# Altium footprint library TFBS4711_VERT.PcbLib: 1 footprints
Each footprint in its own frame and in the unit in brackets; x right, y up, seen from the top. Pads: shape width x height; smd on the part's side, far side on the other; paste and mask are expansions set on the pad; w line width, h text height; cw(c..) or ccw(c..) is an arc to the next point about the centre after c.
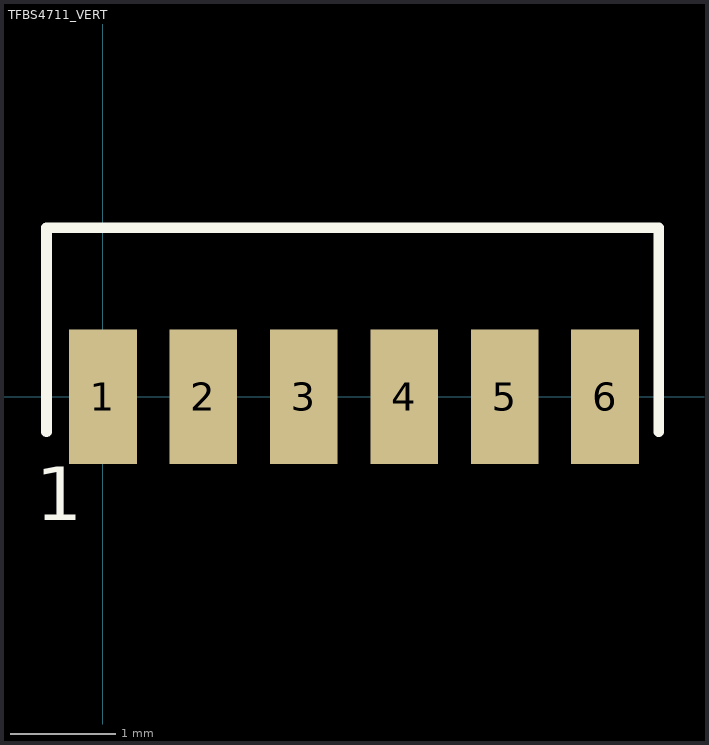
[diagram p0: the footprint, top view; thin cyan lines are the x and y axes]

## TFBS4711_VERT [mm]
pads (6):
  rect 0.64x1.27 smd: 1(0,0) 2(0.95,0) 3(1.9,0) 4(2.85,0) 5(3.8,0) 6(4.75,0)
Top Overlay:
  lines w0.102: -0.533,-0.33 -0.533,1.6 5.258,1.6 5.258,-0.33
  text "1" at -0.635,-1.168 h0.51
3D body: height 3.01, standoff 0.02, extent -0.622,-0.318 5.372,1.587